# EAGLE library part CONGTAC (library CONGTAC)
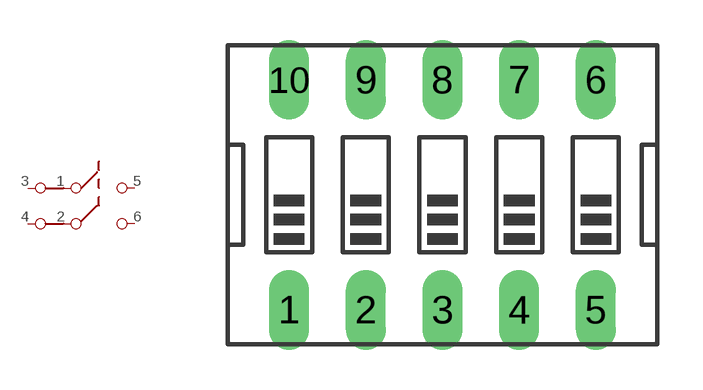
[diagram p0: symbol with the pads of CONGTAC; footprint CONGTAC]

Designator prefix -

## CONGTAC  [CONGTAC]
1  4  pas
2  8  pas
3  C1  pas
4  C2  pas
5  C3  pas
6  C4  pas

## Footprint CONGTAC (pad centres in mm)
drill 0.813 long: 1 -16.51,-5.08; 2 -13.97,-5.08; 3 -11.43,-5.08; 4 -8.89,-5.08; 5 -6.35,-5.08; 6 -6.35,2.54; 7 -8.89,2.54; 8 -11.43,2.54; 9 -13.97,2.54; 10 -16.51,2.54